# Altium footprint library PCB - CONNECTOR - MOLEX - MOLEX 0475710001.PcbLib: 1 footprints
Each footprint in its own frame and in the unit in brackets; x right, y up, seen from the top. Pads: shape width x height; smd on the part's side, far side on the other; paste and mask are expansions set on the pad; w line width, h text height; cw(c..) or ccw(c..) is an arc to the next point about the centre after c.
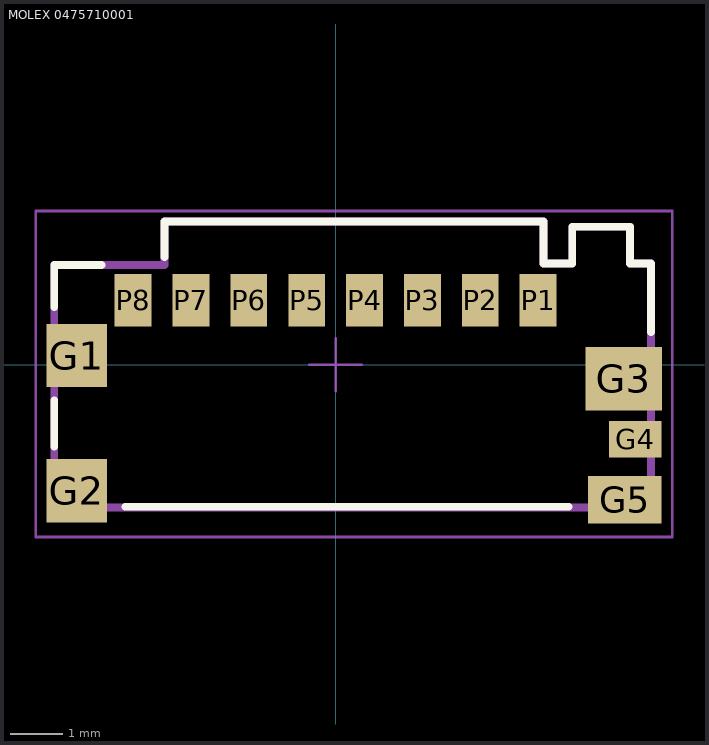
[diagram p0: the footprint, top view; thin cyan lines are the x and y axes]

## MOLEX 0475710001 [mm] "9 (8 + 1) Position Card Connector Secure Digital - microSD™ Surface Mount, Right Angle Gold"
height 2.3
pads (13):
  rect 1.15x1.2 smd: G1(-4.92,0.175) G2(-4.92,-2.395)
  rect 1.45x1.2 smd: G3(5.48,-0.265)
  rect 1x0.7 smd: G4(5.7,-1.415)
  rect 1.4x0.9 smd: G5(5.5,-2.565)
  rect 0.7x1 smd: P1(3.85,1.225) P2(2.75,1.225) P3(1.65,1.225) P4(0.55,1.225) P5(-0.55,1.225) P6(-1.65,1.225) P7(-2.75,1.225) P8(-3.85,1.225)
Top Overlay:
  lines w0.15: -5.35,-1.55 -5.35,-0.675 ; -5.35,1.1 -5.35,1.9 -4.45,1.9 ; -4,-2.7 4.425,-2.7 ; -3.25,2.05 -3.25,2.725 3.95,2.725 3.95,1.925 4.5,1.925 4.5,2.625 5.6,2.625 5.6,1.925 6,1.925 6,0.625
Top Component Outline:
  lines w0.15: -5.35,-2.716 6,-2.716 6,1.925 5.6,1.925 5.6,2.625 4.5,2.625 4.5,1.925 3.95,1.925 3.95,2.725 -3.25,2.725 -3.25,1.9 -5.35,1.9 -5.35,-2.716
Top Courtyard:
  lines w0.05: -0.5,0 0.5,0 ; 0,-0.5 0,0.5 ; -5.7,-3.275 6.4,-3.275 6.4,2.925 -5.7,2.925 -5.7,-3.275
3D body "Molex - 0475710001.step": height 2.3, standoff 0, extent -5.35,-2.716 6.05,2.735